# Altium integrated library Linear Technology Power Management uModule Regulators.IntLib: 166 symbols (part 18 of 67)
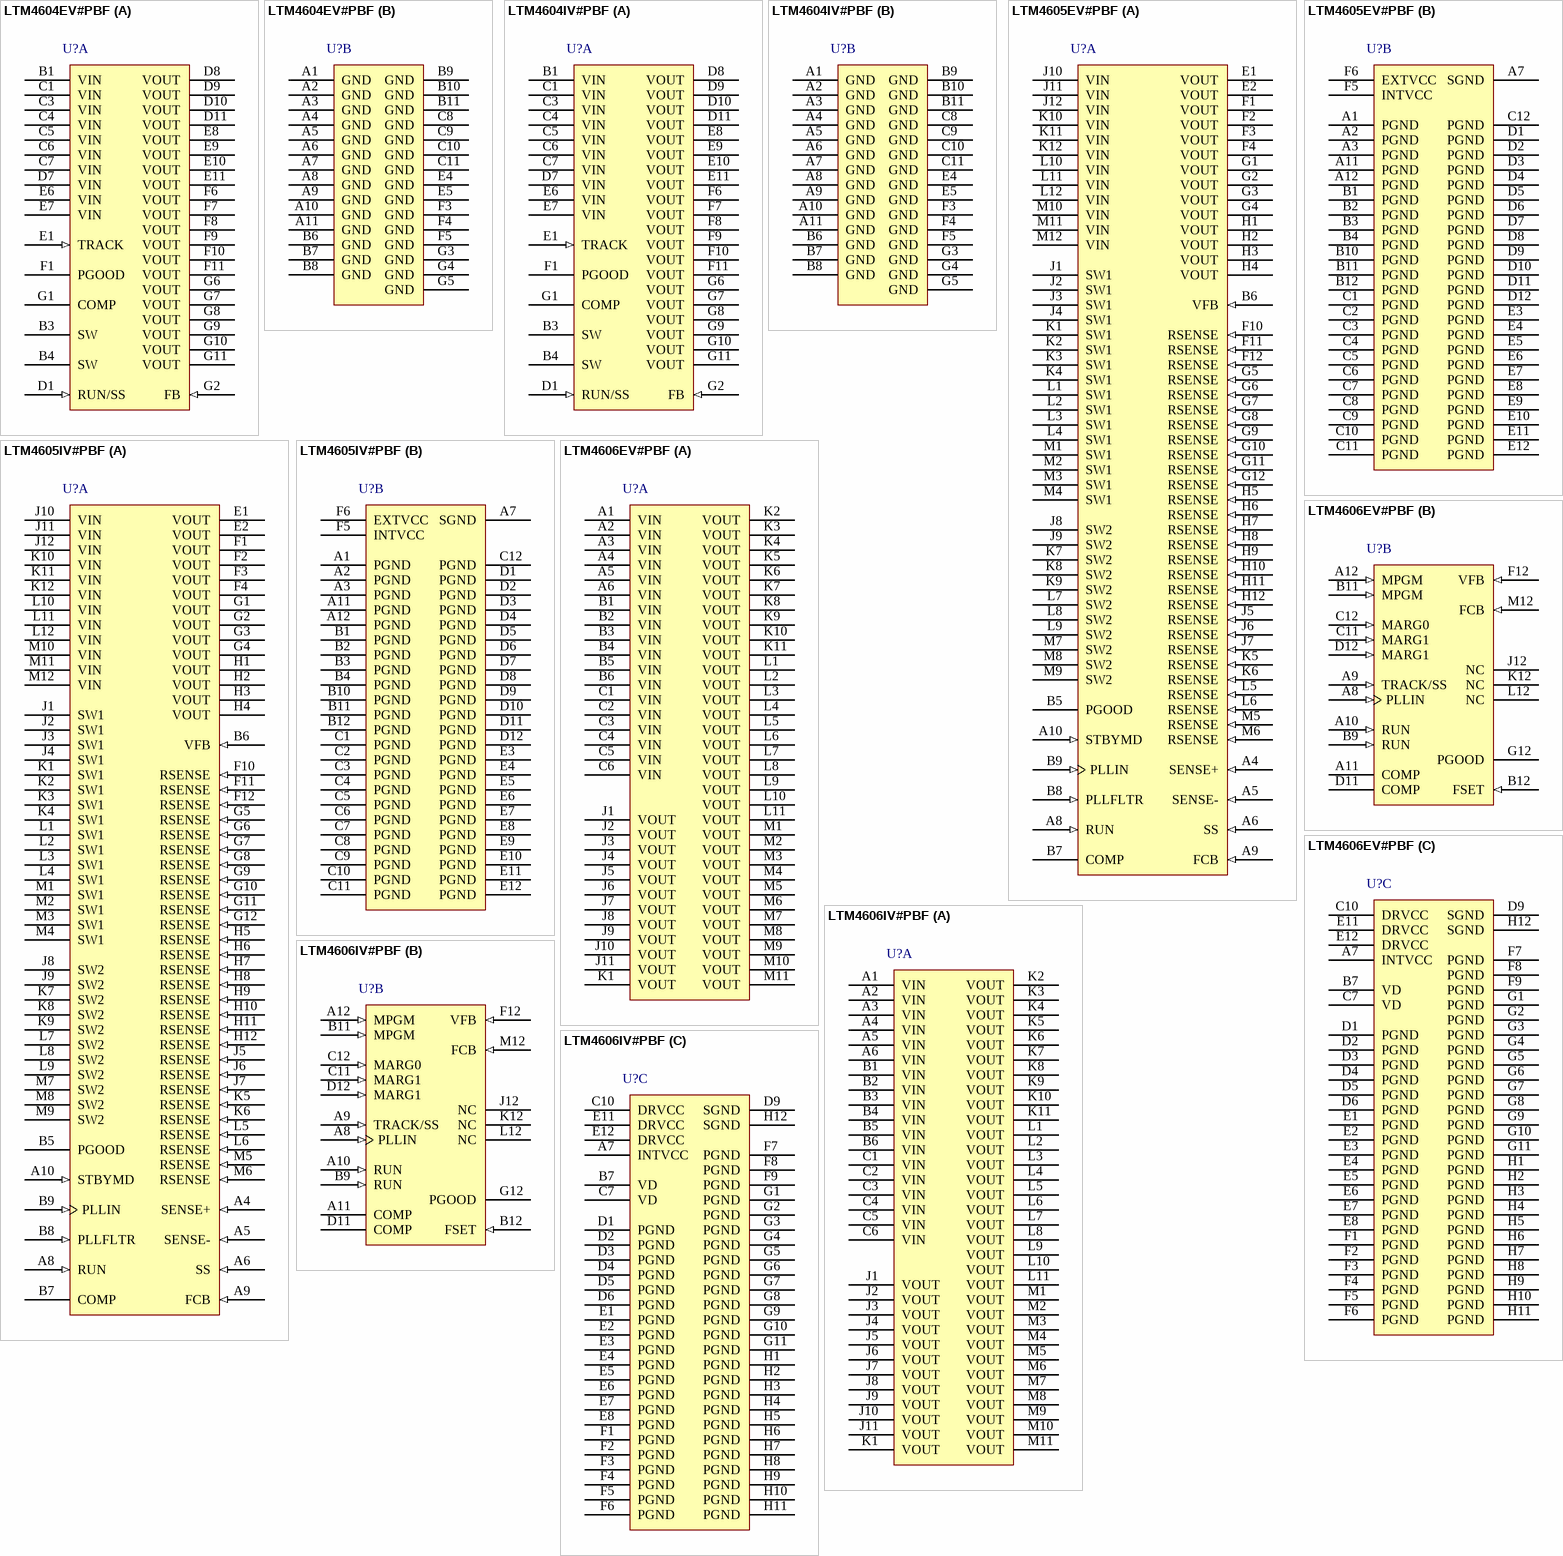
[diagram p44: symbols LTM4604EV#PBF to LTM4606IV#PBF]

## LTM4604EV#PBF
designator U?
Low Voltage, 4 A DC/DC uModule with Tracking, 66-pin LGA, -40 to 85 degC, Pb-Free, Tray; Manufacturer: Linear Technology; PartNumber: LTM4604EV#PBF; Extended Temp: E, I, M; Frequency(kHz): 1250; Ishutdown(uA): 7; Isupply(mA): 0.06; Number of Outputs: 1; Output Current(A): 4; Switch Current(A): 8; Synchronous: yes; Topology: Buck; Vin Max(V): 5.5; Vin Min(V): 2.375; Vout Max(V): 5; Vout Min(V): 0.8; PackageVersion: Rev. A, 02/2013; PackageReference: LGA-66; PackageDescription: 66-Pin LGA, Body 15 x 9 mm, Pitch 1.27 mm; Supplier 1: Digi-Key; Supplier Part Number 1: LTM4604EV#PBF-ND; Supplier 2: Farnell; Supplier Part Number 2: 1663755; Supplier 3: Newark; Supplier Part Number 3: 57M0671; Packing: Tray; RoHS: TRUE; Tracking: yes; Mounting Technology: Surface Mount; Code_JEDEC: MO-222; ComponentLink1Description: Manufacturer URL; ComponentLink1URL: http://www.linear.com/; ComponentLink2Description: Datasheet; ComponentLink2URL: http://cds.linear.com/docs/en/datasheet/4604af.pdf; ComponentLink3Description: Package Specification; ComponentLink3URL: http://cds.linear.com/docs/en/packaging/05081820_A_lga66.pdf
footprint LT-LGA-66-05-08-1820_V (LGA, 66-Leads, Body 15x9mm, Pitch 1.27mm)
part A pins: B1 VIN (power) "Power Input Pins. Apply input voltage between these pins and GND pins. Recommend placing input decoupling capacitance directly between VIN pins and GND pins.", B3 SW "Switching Node of the circuit is used for testing purposes. This can be connected to copper on the board to improve thermal performance. Make sure not to connect it to other output pins.", B4 SW "Switching Node of the circuit is used for testing purposes. This can be connected to copper on the board to improve thermal performance. Make sure not to connect it to other output pins.", C1 VIN (power) "Power Input Pins. Apply input voltage between these pins and GND pins. Recommend placing input decoupling capacitance directly between VIN pins and GND pins.", C3 VIN (power) "Power Input Pins. Apply input voltage between these pins and GND pins. Recommend placing input decoupling capacitance directly between VIN pins and GND pins.", C4 VIN (power) "Power Input Pins. Apply input voltage between these pins and GND pins. Recommend placing input decoupling capacitance directly between VIN pins and GND pins.", C5 VIN (power) "Power Input Pins. Apply input voltage between these pins and GND pins. Recommend placing input decoupling capacitance directly between VIN pins and GND pins.", C6 VIN (power) "Power Input Pins. Apply input voltage between these pins and GND pins. Recommend placing input decoupling capacitance directly between VIN pins and GND pins.", C7 VIN (power) "Power Input Pins. Apply input voltage between these pins and GND pins. Recommend placing input decoupling capacitance directly between VIN pins and GND pins.", D1 RUN/SS (in) "Run Control and Soft-Start Pin. A voltage above 0.8V will turn on the module, and below 0.5V will turn off the module. This pin has a 1M resistor to VIN and a 1000pF capacitor to GND. See Application Information section for (See Datasheet)", D7 VIN (power) "Power Input Pins. Apply input voltage between these pins and GND pins. Recommend placing input decoupling capacitance directly between VIN pins and GND pins.", D8 VOUT (power) "Power Output Pins. Apply output load between these pins and GND pins. Recommend placing output decoupling capacitance directly between these pins and GND pins. Review Table 4.", D9 VOUT (power) "Power Output Pins. Apply output load between these pins and GND pins. Recommend placing output decoupling capacitance directly between these pins and GND pins. Review Table 4.", D10 VOUT (power) "Power Output Pins. Apply output load between these pins and GND pins. Recommend placing output decoupling capacitance directly between these pins and GND pins. Review Table 4.", D11 VOUT (power) "Power Output Pins. Apply output load between these pins and GND pins. Recommend placing output decoupling capacitance directly between these pins and GND pins. Review Table 4.", E1 TRACK (in) "Output Voltage Tracking Pin. When the module is confi gured as a master output, then a soft-start capacitor is placed on the RUN/SS pin to ground to control the master ramp rate. Slave operation is performed by putting a (See Datasheet)", E6 VIN (power) "Power Input Pins. Apply input voltage between these pins and GND pins. Recommend placing input decoupling capacitance directly between VIN pins and GND pins.", E7 VIN (power) "Power Input Pins. Apply input voltage between these pins and GND pins. Recommend placing input decoupling capacitance directly between VIN pins and GND pins.", E8 VOUT (power) "Power Output Pins. Apply output load between these pins and GND pins. Recommend placing output decoupling capacitance directly between these pins and GND pins. Review Table 4.", E9 VOUT (power) "Power Output Pins. Apply output load between these pins and GND pins. Recommend placing output decoupling capacitance directly between these pins and GND pins. Review Table 4.", E10 VOUT (power) "Power Output Pins. Apply output load between these pins and GND pins. Recommend placing output decoupling capacitance directly between these pins and GND pins. Review Table 4.", E11 VOUT (power) "Power Output Pins. Apply output load between these pins and GND pins. Recommend placing output decoupling capacitance directly between these pins and GND pins. Review Table 4.", F1 PGOOD (oc) "Output Voltage Power Good Indicator. Open drain logic output that is pulled to ground when the output voltage is not within +/-7.5% of the regulation point.", F6 VOUT (power) "Power Output Pins. Apply output load between these pins and GND pins. Recommend placing output decoupling capacitance directly between these pins and GND pins. Review Table 4.", F7 VOUT (power) "Power Output Pins. Apply output load between these pins and GND pins. Recommend placing output decoupling capacitance directly between these pins and GND pins. Review Table 4.", F8 VOUT (power) "Power Output Pins. Apply output load between these pins and GND pins. Recommend placing output decoupling capacitance directly between these pins and GND pins. Review Table 4.", F9 VOUT (power) "Power Output Pins. Apply output load between these pins and GND pins. Recommend placing output decoupling capacitance directly between these pins and GND pins. Review Table 4.", F10 VOUT (power) "Power Output Pins. Apply output load between these pins and GND pins. Recommend placing output decoupling capacitance directly between these pins and GND pins. Review Table 4.", F11 VOUT (power) "Power Output Pins. Apply output load between these pins and GND pins. Recommend placing output decoupling capacitance directly between these pins and GND pins. Review Table 4.", G1 COMP "Current Control Threshold and Error Amplifi er Compensation Point. The current comparator threshold increases with this control voltage. Two power modules can current share when this pin is connected in parallel with the (See Datasheet)", G2 FB (in) "The Negative Input of the Error Amplifi er. Internally, this pin is connected to VOUT with a 4.99k precision resistor. Different output voltages can be programmed with an additional resistor between FB and GND pins. Two (See Datasheet)", G6 VOUT (power) "Power Output Pins. Apply output load between these pins and GND pins. Recommend placing output decoupling capacitance directly between these pins and GND pins. Review Table 4.", G7 VOUT (power) "Power Output Pins. Apply output load between these pins and GND pins. Recommend placing output decoupling capacitance directly between these pins and GND pins. Review Table 4.", G8 VOUT (power) "Power Output Pins. Apply output load between these pins and GND pins. Recommend placing output decoupling capacitance directly between these pins and GND pins. Review Table 4.", G9 VOUT (power) "Power Output Pins. Apply output load between these pins and GND pins. Recommend placing output decoupling capacitance directly between these pins and GND pins. Review Table 4.", G10 VOUT (power) "Power Output Pins. Apply output load between these pins and GND pins. Recommend placing output decoupling capacitance directly between these pins and GND pins. Review Table 4.", G11 VOUT (power) "Power Output Pins. Apply output load between these pins and GND pins. Recommend placing output decoupling capacitance directly between these pins and GND pins. Review Table 4."
part B pins: A1 GND (power) "Power Ground Pins for Both Input and Output Returns.", A2 GND (power) "Power Ground Pins for Both Input and Output Returns.", A3 GND (power) "Power Ground Pins for Both Input and Output Returns.", A4 GND (power) "Power Ground Pins for Both Input and Output Returns.", A5 GND (power) "Power Ground Pins for Both Input and Output Returns.", A6 GND (power) "Power Ground Pins for Both Input and Output Returns.", A7 GND (power) "Power Ground Pins for Both Input and Output Returns.", A8 GND (power) "Power Ground Pins for Both Input and Output Returns.", A9 GND (power) "Power Ground Pins for Both Input and Output Returns.", A10 GND (power) "Power Ground Pins for Both Input and Output Returns.", A11 GND (power) "Power Ground Pins for Both Input and Output Returns.", B6 GND (power) "Power Ground Pins for Both Input and Output Returns.", B7 GND (power) "Power Ground Pins for Both Input and Output Returns.", B8 GND (power) "Power Ground Pins for Both Input and Output Returns.", B9 GND (power) "Power Ground Pins for Both Input and Output Returns.", B10 GND (power) "Power Ground Pins for Both Input and Output Returns.", B11 GND (power) "Power Ground Pins for Both Input and Output Returns.", C8 GND (power) "Power Ground Pins for Both Input and Output Returns.", C9 GND (power) "Power Ground Pins for Both Input and Output Returns.", C10 GND (power) "Power Ground Pins for Both Input and Output Returns.", C11 GND (power) "Power Ground Pins for Both Input and Output Returns.", E4 GND (power) "Power Ground Pins for Both Input and Output Returns.", E5 GND (power) "Power Ground Pins for Both Input and Output Returns.", F3 GND (power) "Power Ground Pins for Both Input and Output Returns.", F4 GND (power) "Power Ground Pins for Both Input and Output Returns.", F5 GND (power) "Power Ground Pins for Both Input and Output Returns.", G3 GND (power) "Power Ground Pins for Both Input and Output Returns.", G4 GND (power) "Power Ground Pins for Both Input and Output Returns.", G5 GND (power) "Power Ground Pins for Both Input and Output Returns."

## LTM4604IV#PBF
designator U?
Low Voltage, 4 A DC/DC uModule with Tracking, 66-pin LGA, -40 to 85 degC, Pb-Free, Tray; Manufacturer: Linear Technology; PartNumber: LTM4604IV#PBF; Extended Temp: E, I, M; Frequency(kHz): 1250; Ishutdown(uA): 7; Isupply(mA): 0.06; Number of Outputs: 1; Output Current(A): 4; Switch Current(A): 8; Synchronous: yes; Topology: Buck; Vin Max(V): 5.5; Vin Min(V): 2.375; Vout Max(V): 5; Vout Min(V): 0.8; PackageVersion: Rev. A, 02/2013; PackageReference: LGA-66; PackageDescription: 66-Pin LGA, Body 15 x 9 mm, Pitch 1.27 mm; Supplier 1: Digi-Key; Supplier Part Number 1: LTM4604IV#PBF-ND; Supplier 2: Farnell; Supplier Part Number 2: 1847463; Supplier 3: Newark; Supplier Part Number 3: 57M0672; Packing: Tray; RoHS: TRUE; Tracking: yes; Mounting Technology: Surface Mount; Code_JEDEC: MO-222; ComponentLink1Description: Manufacturer URL; ComponentLink1URL: http://www.linear.com/; ComponentLink2Description: Datasheet; ComponentLink2URL: http://cds.linear.com/docs/en/datasheet/4604af.pdf; ComponentLink3Description: Package Specification; ComponentLink3URL: http://cds.linear.com/docs/en/packaging/05081820_A_lga66.pdf
footprint LT-LGA-66-05-08-1820_V (LGA, 66-Leads, Body 15x9mm, Pitch 1.27mm)
part A pins: B1 VIN (power) "Power Input Pins. Apply input voltage between these pins and GND pins. Recommend placing input decoupling capacitance directly between VIN pins and GND pins.", B3 SW "Switching Node of the circuit is used for testing purposes. This can be connected to copper on the board to improve thermal performance. Make sure not to connect it to other output pins.", B4 SW "Switching Node of the circuit is used for testing purposes. This can be connected to copper on the board to improve thermal performance. Make sure not to connect it to other output pins.", C1 VIN (power) "Power Input Pins. Apply input voltage between these pins and GND pins. Recommend placing input decoupling capacitance directly between VIN pins and GND pins.", C3 VIN (power) "Power Input Pins. Apply input voltage between these pins and GND pins. Recommend placing input decoupling capacitance directly between VIN pins and GND pins.", C4 VIN (power) "Power Input Pins. Apply input voltage between these pins and GND pins. Recommend placing input decoupling capacitance directly between VIN pins and GND pins.", C5 VIN (power) "Power Input Pins. Apply input voltage between these pins and GND pins. Recommend placing input decoupling capacitance directly between VIN pins and GND pins.", C6 VIN (power) "Power Input Pins. Apply input voltage between these pins and GND pins. Recommend placing input decoupling capacitance directly between VIN pins and GND pins.", C7 VIN (power) "Power Input Pins. Apply input voltage between these pins and GND pins. Recommend placing input decoupling capacitance directly between VIN pins and GND pins.", D1 RUN/SS (in) "Run Control and Soft-Start Pin. A voltage above 0.8V will turn on the module, and below 0.5V will turn off the module. This pin has a 1M resistor to VIN and a 1000pF capacitor to GND. See Application Information section for (See Datasheet)", D7 VIN (power) "Power Input Pins. Apply input voltage between these pins and GND pins. Recommend placing input decoupling capacitance directly between VIN pins and GND pins.", D8 VOUT (power) "Power Output Pins. Apply output load between these pins and GND pins. Recommend placing output decoupling capacitance directly between these pins and GND pins. Review Table 4.", D9 VOUT (power) "Power Output Pins. Apply output load between these pins and GND pins. Recommend placing output decoupling capacitance directly between these pins and GND pins. Review Table 4.", D10 VOUT (power) "Power Output Pins. Apply output load between these pins and GND pins. Recommend placing output decoupling capacitance directly between these pins and GND pins. Review Table 4.", D11 VOUT (power) "Power Output Pins. Apply output load between these pins and GND pins. Recommend placing output decoupling capacitance directly between these pins and GND pins. Review Table 4.", E1 TRACK (in) "Output Voltage Tracking Pin. When the module is confi gured as a master output, then a soft-start capacitor is placed on the RUN/SS pin to ground to control the master ramp rate. Slave operation is performed by putting a (See Datasheet)", E6 VIN (power) "Power Input Pins. Apply input voltage between these pins and GND pins. Recommend placing input decoupling capacitance directly between VIN pins and GND pins.", E7 VIN (power) "Power Input Pins. Apply input voltage between these pins and GND pins. Recommend placing input decoupling capacitance directly between VIN pins and GND pins.", E8 VOUT (power) "Power Output Pins. Apply output load between these pins and GND pins. Recommend placing output decoupling capacitance directly between these pins and GND pins. Review Table 4.", E9 VOUT (power) "Power Output Pins. Apply output load between these pins and GND pins. Recommend placing output decoupling capacitance directly between these pins and GND pins. Review Table 4.", E10 VOUT (power) "Power Output Pins. Apply output load between these pins and GND pins. Recommend placing output decoupling capacitance directly between these pins and GND pins. Review Table 4.", E11 VOUT (power) "Power Output Pins. Apply output load between these pins and GND pins. Recommend placing output decoupling capacitance directly between these pins and GND pins. Review Table 4.", F1 PGOOD (oc) "Output Voltage Power Good Indicator. Open drain logic output that is pulled to ground when the output voltage is not within +/-7.5% of the regulation point.", F6 VOUT (power) "Power Output Pins. Apply output load between these pins and GND pins. Recommend placing output decoupling capacitance directly between these pins and GND pins. Review Table 4.", F7 VOUT (power) "Power Output Pins. Apply output load between these pins and GND pins. Recommend placing output decoupling capacitance directly between these pins and GND pins. Review Table 4.", F8 VOUT (power) "Power Output Pins. Apply output load between these pins and GND pins. Recommend placing output decoupling capacitance directly between these pins and GND pins. Review Table 4.", F9 VOUT (power) "Power Output Pins. Apply output load between these pins and GND pins. Recommend placing output decoupling capacitance directly between these pins and GND pins. Review Table 4.", F10 VOUT (power) "Power Output Pins. Apply output load between these pins and GND pins. Recommend placing output decoupling capacitance directly between these pins and GND pins. Review Table 4.", F11 VOUT (power) "Power Output Pins. Apply output load between these pins and GND pins. Recommend placing output decoupling capacitance directly between these pins and GND pins. Review Table 4.", G1 COMP "Current Control Threshold and Error Amplifi er Compensation Point. The current comparator threshold increases with this control voltage. Two power modules can current share when this pin is connected in parallel with the (See Datasheet)", G2 FB (in) "The Negative Input of the Error Amplifi er. Internally, this pin is connected to VOUT with a 4.99k precision resistor. Different output voltages can be programmed with an additional resistor between FB and GND pins. Two (See Datasheet)", G6 VOUT (power) "Power Output Pins. Apply output load between these pins and GND pins. Recommend placing output decoupling capacitance directly between these pins and GND pins. Review Table 4.", G7 VOUT (power) "Power Output Pins. Apply output load between these pins and GND pins. Recommend placing output decoupling capacitance directly between these pins and GND pins. Review Table 4.", G8 VOUT (power) "Power Output Pins. Apply output load between these pins and GND pins. Recommend placing output decoupling capacitance directly between these pins and GND pins. Review Table 4.", G9 VOUT (power) "Power Output Pins. Apply output load between these pins and GND pins. Recommend placing output decoupling capacitance directly between these pins and GND pins. Review Table 4.", G10 VOUT (power) "Power Output Pins. Apply output load between these pins and GND pins. Recommend placing output decoupling capacitance directly between these pins and GND pins. Review Table 4.", G11 VOUT (power) "Power Output Pins. Apply output load between these pins and GND pins. Recommend placing output decoupling capacitance directly between these pins and GND pins. Review Table 4."
part B pins: A1 GND (power) "Power Ground Pins for Both Input and Output Returns.", A2 GND (power) "Power Ground Pins for Both Input and Output Returns.", A3 GND (power) "Power Ground Pins for Both Input and Output Returns.", A4 GND (power) "Power Ground Pins for Both Input and Output Returns.", A5 GND (power) "Power Ground Pins for Both Input and Output Returns.", A6 GND (power) "Power Ground Pins for Both Input and Output Returns.", A7 GND (power) "Power Ground Pins for Both Input and Output Returns.", A8 GND (power) "Power Ground Pins for Both Input and Output Returns.", A9 GND (power) "Power Ground Pins for Both Input and Output Returns.", A10 GND (power) "Power Ground Pins for Both Input and Output Returns.", A11 GND (power) "Power Ground Pins for Both Input and Output Returns.", B6 GND (power) "Power Ground Pins for Both Input and Output Returns.", B7 GND (power) "Power Ground Pins for Both Input and Output Returns.", B8 GND (power) "Power Ground Pins for Both Input and Output Returns.", B9 GND (power) "Power Ground Pins for Both Input and Output Returns.", B10 GND (power) "Power Ground Pins for Both Input and Output Returns.", B11 GND (power) "Power Ground Pins for Both Input and Output Returns.", C8 GND (power) "Power Ground Pins for Both Input and Output Returns.", C9 GND (power) "Power Ground Pins for Both Input and Output Returns.", C10 GND (power) "Power Ground Pins for Both Input and Output Returns.", C11 GND (power) "Power Ground Pins for Both Input and Output Returns.", E4 GND (power) "Power Ground Pins for Both Input and Output Returns.", E5 GND (power) "Power Ground Pins for Both Input and Output Returns.", F3 GND (power) "Power Ground Pins for Both Input and Output Returns.", F4 GND (power) "Power Ground Pins for Both Input and Output Returns.", F5 GND (power) "Power Ground Pins for Both Input and Output Returns.", G3 GND (power) "Power Ground Pins for Both Input and Output Returns.", G4 GND (power) "Power Ground Pins for Both Input and Output Returns.", G5 GND (power) "Power Ground Pins for Both Input and Output Returns."

## LTM4605EV#PBF
designator U?
High Efficiency Buck-Boost DC/DC uModule Regulator, 141-pin LGA, -40 to 85 degC, Pb-Free, Tray; Manufacturer: Linear Technology; PartNumber: LTM4605EV#PBF; Extended Temp: E, I; Frequency Sync Range: 200kHz - 400kHz; Frequency(kHz): 200; Ishutdown(uA): 35; Isupply(mA): 2.8; Number of Outputs: 1; Output Current(A): 5; Synchronous: yes; Tracking: no; Vin Max(V): 20; Vin Min(V): 4.5; Vout Max(V): 16; Vout Min(V): 0.8; DatasheetVersion: Rev. C; PackageVersion: Rev. C, 02/2013; PackageReference: LGA-141; PackageDescription: 141-Pin LGA, Body 15 x 15 mm, Pitch 1.27 mm; Supplier 1: Digi-Key; Supplier Part Number 1: LTM4605EV#PBF-ND; Supplier 2: Farnell; Supplier Part Number 2: 1647766; Supplier 3: Newark; Supplier Part Number 3: 95M6551; Packing: Tray; RoHS: TRUE; Topology: Buck-Boost; Mounting Technology: Surface Mount; Code_JEDEC: MO-222; ComponentLink1Description: Manufacturer URL; ComponentLink1URL: http://www.linear.com/; ComponentLink2Description: Datasheet; ComponentLink2URL: http://cds.linear.com/docs/en/datasheet/4605fc.pdf; ComponentLink3Description: Package Specification; ComponentLink3URL: http://cds.linear.com/docs/en/packaging/05081815_C_lga141.pdf
footprint LT-LGA-141-05-08-1815_V (LGA, 141-Leads, Body 15x15mm, Pitch 1.27mm)
part A pins: A4 SENSE+ (in) "Positive Input to the Current Sense and Reverse Current Detect Comparators.", A5 SENSE- (in) "Negative Input to the Current Sense and Reverse Current Detect Comparators.", A6 SS (in) "Soft-Start Pin. Soft-start reduces the input surge current from the power source by gradually increasing the controller’s current limit.", A8 RUN (in) "Run Control Pin. A voltage below 1.6V will turn off the module. There is a 100k resistor between the RUN pin and SGND in the module. Do not apply more than 6V to this pin. See the Applications Information section.", A9 FCB (in) "Forced Continuous Control Input. The voltage applied to this pin sets the operating mode of the module. When the applied voltage is less than 0.8V, the forced continuous current mode is active in boost operation and the skip (See Datasheet)", A10 STBYMD (in) "LDO Control Pin. Determines whether the internal LDO remains active when the controller is shut down. See Operations section for details. If the STBYMD pin is pulled to ground, the SS pin is internally pulled to ground to (See Datasheet)", B5 PGOOD (oc), B6 VFB (in) "The Negative Input of the Error Amplifier. Internally, this pin is connected to VOUT with a 100k precision resistor. Different output voltages can be programmed with an additional resistor between VFB and SGND pins. See the (See Datasheet)", B7 COMP "Current Control Threshold and Error Amplifier Compensation Point. The current comparator threshold increases with this control voltage. The voltage ranges from 0V to 2.4V.", B8 PLLFLTR (in) "The lowpass filter of the phase-locked loop is tied to this pin. This pin can also be used to set the frequency of the internal oscillator with an AC or DC voltage. See the Applications Information section for details.", B9 PLLIN (in) "External Clock Synchronization Input to the Phase Detector. This pin is internally terminated to SGND with a 50k resistor. The phase-locked loop will force the rising bottom gate signal of the controller to be synchronized (See Datasheet)", E1 VOUT (power) "Power Output Pins. Apply output load between these pins and PGND pins. Recommend placing output decoupling capacitance directly between these pins and PGND pins.", E2 VOUT (power) "Power Output Pins. Apply output load between these pins and PGND pins. Recommend placing output decoupling capacitance directly between these pins and PGND pins.", F1 VOUT (power) "Power Output Pins. Apply output load between these pins and PGND pins. Recommend placing output decoupling capacitance directly between these pins and PGND pins.", F2 VOUT (power) "Power Output Pins. Apply output load between these pins and PGND pins. Recommend placing output decoupling capacitance directly between these pins and PGND pins.", F3 VOUT (power) "Power Output Pins. Apply output load between these pins and PGND pins. Recommend placing output decoupling capacitance directly between these pins and PGND pins.", F4 VOUT (power) "Power Output Pins. Apply output load between these pins and PGND pins. Recommend placing output decoupling capacitance directly between these pins and PGND pins.", F10 RSENSE (in) "Sensing Resistor Pin. The sensing resistor is connected from this pin to PGND.", F11 RSENSE (in) "Sensing Resistor Pin. The sensing resistor is connected from this pin to PGND.", F12 RSENSE (in) "Sensing Resistor Pin. The sensing resistor is connected from this pin to PGND.", G1 VOUT (power) "Power Output Pins. Apply output load between these pins and PGND pins. Recommend placing output decoupling capacitance directly between these pins and PGND pins.", G2 VOUT (power) "Power Output Pins. Apply output load between these pins and PGND pins. Recommend placing output decoupling capacitance directly between these pins and PGND pins.", G3 VOUT (power) "Power Output Pins. Apply output load between these pins and PGND pins. Recommend placing output decoupling capacitance directly between these pins and PGND pins.", G4 VOUT (power) "Power Output Pins. Apply output load between these pins and PGND pins. Recommend placing output decoupling capacitance directly between these pins and PGND pins.", G5 RSENSE (in) "Sensing Resistor Pin. The sensing resistor is connected from this pin to PGND.", G6 RSENSE (in) "Sensing Resistor Pin. The sensing resistor is connected from this pin to PGND.", G7 RSENSE (in) "Sensing Resistor Pin. The sensing resistor is connected from this pin to PGND.", G8 RSENSE (in) "Sensing Resistor Pin. The sensing resistor is connected from this pin to PGND.", G9 RSENSE (in) "Sensing Resistor Pin. The sensing resistor is connected from this pin to PGND.", G10 RSENSE (in) "Sensing Resistor Pin. The sensing resistor is connected from this pin to PGND.", G11 RSENSE (in) "Sensing Resistor Pin. The sensing resistor is connected from this pin to PGND.", G12 RSENSE (in) "Sensing Resistor Pin. The sensing resistor is connected from this pin to PGND.", H1 VOUT (power) "Power Output Pins. Apply output load between these pins and PGND pins. Recommend placing output decoupling capacitance directly between these pins and PGND pins.", H2 VOUT (power) "Power Output Pins. Apply output load between these pins and PGND pins. Recommend placing output decoupling capacitance directly between these pins and PGND pins.", H3 VOUT (power) "Power Output Pins. Apply output load between these pins and PGND pins. Recommend placing output decoupling capacitance directly between these pins and PGND pins.", H4 VOUT (power) "Power Output Pins. Apply output load between these pins and PGND pins. Recommend placing output decoupling capacitance directly between these pins and PGND pins.", H5 RSENSE (in) "Sensing Resistor Pin. The sensing resistor is connected from this pin to PGND.", H6 RSENSE (in) "Sensing Resistor Pin. The sensing resistor is connected from this pin to PGND.", H7 RSENSE (in) "Sensing Resistor Pin. The sensing resistor is connected from this pin to PGND.", H8 RSENSE (in) "Sensing Resistor Pin. The sensing resistor is connected from this pin to PGND.", H9 RSENSE (in) "Sensing Resistor Pin. The sensing resistor is connected from this pin to PGND.", H10 RSENSE (in) "Sensing Resistor Pin. The sensing resistor is connected from this pin to PGND.", H11 RSENSE (in) "Sensing Resistor Pin. The sensing resistor is connected from this pin to PGND.", H12 RSENSE (in) "Sensing Resistor Pin. The sensing resistor is connected from this pin to PGND.", J1 SW1 "Switch Nodes. The power inductor is connected between SW1 and SW2.", J2 SW1 "Switch Nodes. The power inductor is connected between SW1 and SW2.", J3 SW1 "Switch Nodes. The power inductor is connected between SW1 and SW2.", J4 SW1 "Switch Nodes. The power inductor is connected between SW1 and SW2.", J5 RSENSE (in) "Sensing Resistor Pin. The sensing resistor is connected from this pin to PGND.", J6 RSENSE (in) "Sensing Resistor Pin. The sensing resistor is connected from this pin to PGND.", J7 RSENSE (in) "Sensing Resistor Pin. The sensing resistor is connected from this pin to PGND.", J8 SW2 "Switch Nodes. The power inductor is connected between SW1 and SW2.", J9 SW2 "Switch Nodes. The power inductor is connected between SW1 and SW2.", J10 VIN (power) "Power Input Pins. Apply input voltage between these pins and PGND pins. Recommend placing input decoupling capacitance directly between VIN pins and PGND pins.", J11 VIN (power) "Power Input Pins. Apply input voltage between these pins and PGND pins. Recommend placing input decoupling capacitance directly between VIN pins and PGND pins.", J12 VIN (power) "Power Input Pins. Apply input voltage between these pins and PGND pins. Recommend placing input decoupling capacitance directly between VIN pins and PGND pins.", K1 SW1 "Switch Nodes. The power inductor is connected between SW1 and SW2.", K2 SW1 "Switch Nodes. The power inductor is connected between SW1 and SW2.", K3 SW1 "Switch Nodes. The power inductor is connected between SW1 and SW2.", K4 SW1 "Switch Nodes. The power inductor is connected between SW1 and SW2.", K5 RSENSE (in) "Sensing Resistor Pin. The sensing resistor is connected from this pin to PGND.", K6 RSENSE (in) "Sensing Resistor Pin. The sensing resistor is connected from this pin to PGND.", K7 SW2 "Switch Nodes. The power inductor is connected between SW1 and SW2.", K8 SW2 "Switch Nodes. The power inductor is connected between SW1 and SW2.", K9 SW2 "Switch Nodes. The power inductor is connected between SW1 and SW2.", K10 VIN (power) "Power Input Pins. Apply input voltage between these pins and PGND pins. Recommend placing input decoupling capacitance directly between VIN pins and PGND pins.", K11 VIN (power) "Power Input Pins. Apply input voltage between these pins and PGND pins. Recommend placing input decoupling capacitance directly between VIN pins and PGND pins.", K12 VIN (power) "Power Input Pins. Apply input voltage between these pins and PGND pins. Recommend placing input decoupling capacitance directly between VIN pins and PGND pins.", L1 SW1 "Switch Nodes. The power inductor is connected between SW1 and SW2.", L2 SW1 "Switch Nodes. The power inductor is connected between SW1 and SW2.", L3 SW1 "Switch Nodes. The power inductor is connected between SW1 and SW2.", L4 SW1 "Switch Nodes. The power inductor is connected between SW1 and SW2.", L5 RSENSE (in) "Sensing Resistor Pin. The sensing resistor is connected from this pin to PGND.", L6 RSENSE (in) "Sensing Resistor Pin. The sensing resistor is connected from this pin to PGND.", L7 SW2 "Switch Nodes. The power inductor is connected between SW1 and SW2.", L8 SW2 "Switch Nodes. The power inductor is connected between SW1 and SW2.", L9 SW2 "Switch Nodes. The power inductor is connected between SW1 and SW2.", L10 VIN (power) "Power Input Pins. Apply input voltage between these pins and PGND pins. Recommend placing input decoupling capacitance directly between VIN pins and PGND pins.", L11 VIN (power) "Power Input Pins. Apply input voltage between these pins and PGND pins. Recommend placing input decoupling capacitance directly between VIN pins and PGND pins.", L12 VIN (power) "Power Input Pins. Apply input voltage between these pins and PGND pins. Recommend placing input decoupling capacitance directly between VIN pins and PGND pins.", M1 SW1 "Switch Nodes. The power inductor is connected between SW1 and SW2.", M2 SW1 "Switch Nodes. The power inductor is connected between SW1 and SW2.", M3 SW1 "Switch Nodes. The power inductor is connected between SW1 and SW2.", M4 SW1 "Switch Nodes. The power inductor is connected between SW1 and SW2.", M5 RSENSE (in) "Sensing Resistor Pin. The sensing resistor is connected from this pin to PGND.", M6 RSENSE (in) "Sensing Resistor Pin. The sensing resistor is connected from this pin to PGND.", M7 SW2 "Switch Nodes. The power inductor is connected between SW1 and SW2.", M8 SW2 "Switch Nodes. The power inductor is connected between SW1 and SW2.", M9 SW2 "Switch Nodes. The power inductor is connected between SW1 and SW2.", M10 VIN (power) "Power Input Pins. Apply input voltage between these pins and PGND pins. Recommend placing input decoupling capacitance directly between VIN pins and PGND pins.", M11 VIN (power) "Power Input Pins. Apply input voltage between these pins and PGND pins. Recommend placing input decoupling capacitance directly between VIN pins and PGND pins.", M12 VIN (power) "Power Input Pins. Apply input voltage between these pins and PGND pins. Recommend placing input decoupling capacitance directly between VIN pins and PGND pins."
part B pins: A1 PGND (power) "Power Ground Pins for Both Input and Output Returns.", A2 PGND (power) "Power Ground Pins for Both Input and Output Returns.", A3 PGND (power) "Power Ground Pins for Both Input and Output Returns.", A7 SGND (power) "Signal Ground Pin. This pin connects to PGND at output capacitor point.", A11 PGND (power) "Power Ground Pins for Both Input and Output Returns.", A12 PGND (power) "Power Ground Pins for Both Input and Output Returns.", B1 PGND (power) "Power Ground Pins for Both Input and Output Returns.", B2 PGND (power) "Power Ground Pins for Both Input and Output Returns.", B3 PGND (power) "Power Ground Pins for Both Input and Output Returns.", B4 PGND (power) "Power Ground Pins for Both Input and Output Returns.", B10 PGND (power) "Power Ground Pins for Both Input and Output Returns.", B11 PGND (power) "Power Ground Pins for Both Input and Output Returns.", B12 PGND (power) "Power Ground Pins for Both Input and Output Returns.", C1 PGND (power) "Power Ground Pins for Both Input and Output Returns.", C2 PGND (power) "Power Ground Pins for Both Input and Output Returns.", C3 PGND (power) "Power Ground Pins for Both Input and Output Returns.", C4 PGND (power) "Power Ground Pins for Both Input and Output Returns.", C5 PGND (power) "Power Ground Pins for Both Input and Output Returns.", C6 PGND (power) "Power Ground Pins for Both Input and Output Returns.", C7 PGND (power) "Power Ground Pins for Both Input and Output Returns.", C8 PGND (power) "Power Ground Pins for Both Input and Output Returns.", C9 PGND (power) "Power Ground Pins for Both Input and Output Returns.", C10 PGND (power) "Power Ground Pins for Both Input and Output Returns.", C11 PGND (power) "Power Ground Pins for Both Input and Output Returns.", C12 PGND (power) "Power Ground Pins for Both Input and Output Returns.", D1 PGND (power) "Power Ground Pins for Both Input and Output Returns.", D2 PGND (power) "Power Ground Pins for Both Input and Output Returns.", D3 PGND (power) "Power Ground Pins for Both Input and Output Returns.", D4 PGND (power) "Power Ground Pins for Both Input and Output Returns.", D5 PGND (power) "Power Ground Pins for Both Input and Output Returns.", D6 PGND (power) "Power Ground Pins for Both Input and Output Returns.", D7 PGND (power) "Power Ground Pins for Both Input and Output Returns.", D8 PGND (power) "Power Ground Pins for Both Input and Output Returns.", D9 PGND (power) "Power Ground Pins for Both Input and Output Returns.", D10 PGND (power) "Power Ground Pins for Both Input and Output Returns.", D11 PGND (power) "Power Ground Pins for Both Input and Output Returns.", D12 PGND (power) "Power Ground Pins for Both Input and Output Returns.", E3 PGND (power) "Power Ground Pins for Both Input and Output Returns.", E4 PGND (power) "Power Ground Pins for Both Input and Output Returns.", E5 PGND (power) "Power Ground Pins for Both Input and Output Returns.", E6 PGND (power) "Power Ground Pins for Both Input and Output Returns.", E7 PGND (power) "Power Ground Pins for Both Input and Output Returns.", E8 PGND (power) "Power Ground Pins for Both Input and Output Returns.", E9 PGND (power) "Power Ground Pins for Both Input and Output Returns.", E10 PGND (power) "Power Ground Pins for Both Input and Output Returns.", E11 PGND (power) "Power Ground Pins for Both Input and Output Returns.", E12 PGND (power) "Power Ground Pins for Both Input and Output Returns.", F5 INTVCC (power), F6 EXTVCC (power) "External VCC Input. When EXTVCC exceeds 5.7V, an internal switch connects this pin to INTVCC and shuts down the internal regulator so that the controller and gate drive power is drawn from EXTVCC. Do not exceed 7V at this (See Datasheet)"